# Altium integrated library ON Semi General Purpose Transistors.IntLib: 1679 symbols (part 28 of 36)
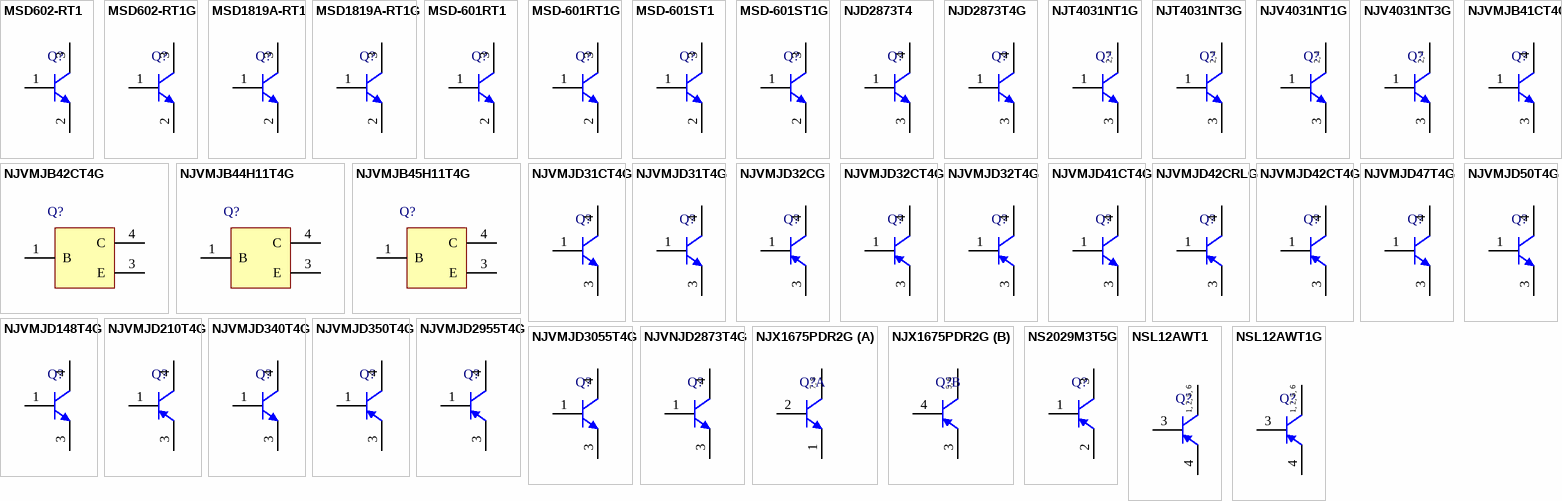
[diagram p72: symbols MSD602-RT1 to NSL12AWT1G]

## MSD602-RT1G
designator Q?
NPN General Purpose Amplifier Transistor Surface Mount, 3-Pin SC-59, Pb-Free, Tape and Reel; Manufacturer: On Semiconductor; PartNumber: MSD602-RT1G; IC Continuous (A): 0.5; DatasheetVersion: Rev. 8; PackageVersion: Rev. H, 06/2012; PackageReference: SC-59-3-318D-04; PackageDescription: 3-Pin Small Outline Transistor, Body 2.9 x 1.5 mm, Pitch 0.95 mm; Supplier 1: Digi-Key; Supplier Part Number 1: MSD602-RT1GOS-ND; Supplier 2: Mouser; Supplier Part Number 2: 863-MSD602-RT1G; Packing: Tape and Reel; Polarity: NPN; RoHS: TRUE; Mounting Technology: Surface Mount; ComponentLink1Description: Manufacturer URL; ComponentLink1URL: http://www.onsemi.com/; ComponentLink2Description: Datasheet; ComponentLink2URL: http://www.onsemi.com/pub_link/Collateral/MSD602-RT1-D.PDF; ComponentLink3Description: Package Specification; ComponentLink3URL: http://www.onsemi.cn/pub_link/Collateral/318D-04.PDF
footprint ONSC-SC-59-3-318D-04_V (SOT23, 3-Leads, Body 2.9x1.5mm, Pitch 0.95mm)
pins: 1 B, 2 E, 3 C

## MSD1819A-RT1
designator Q?
General Purpose Amplifier Transistor, NPN Silicon Surface Mount, 3-Pin SC70, Tape and Reel; Manufacturer: On Semiconductor; PartNumber: MSD1819A-RT1; Note: 0; IC Continuous (A): 0.1; DatasheetVersion: Rev. 9; PackageVersion: Rev. N, 11/2008; PackageReference: SC-70-3-419-04; PackageDescription: 3-Pin Small Outline Transistor, Body 2 x 1.25 mm, Pitch 0.65 mm; Packing: Tape and Reel; Polarity: NPN; RoHS: FALSE; Mounting Technology: Surface Mount; ComponentLink1Description: Manufacturer URL; ComponentLink1URL: http://www.onsemi.com/; ComponentLink2Description: Datasheet; ComponentLink2URL: http://www.onsemi.com/pub_link/Collateral/MSD1819A-RT1-D.PDF; ComponentLink3Description: Package Specification; ComponentLink3URL: http://www.onsemi.cn/pub_link/Collateral/419-04.PDF
footprint ONSC-SC-70-3-419-04_V (SOT23, 3-Leads, Body 2x1.25mm, Pitch 0.65mm)
pins: 1 B, 2 E, 3 C

## MSD1819A-RT1G
designator Q?
General Purpose Amplifier Transistor, NPN Silicon Surface Mount, 3-Pin SC70, Pb-Free, Tape and Reel; Manufacturer: On Semiconductor; PartNumber: MSD1819A-RT1G; IC Continuous (A): 0.1; DatasheetVersion: Rev. 9; PackageVersion: Rev. N, 11/2008; PackageReference: SC-70-3-419-04; PackageDescription: 3-Pin Small Outline Transistor, Body 2 x 1.25 mm, Pitch 0.65 mm; Supplier 1: Digi-Key; Supplier Part Number 1: MSD1819A-RT1GOSTR-ND; Supplier 2: Digi-Key; Supplier Part Number 2: MSD1819A-RT1GOSCT-ND; Supplier 3: Digi-Key; Supplier Part Number 3: MSD1819A-RT1GOSDKR-ND; Supplier 4: Farnell; Supplier Part Number 4: 2317557; Supplier 5: Newark; Supplier Part Number 5: 90W4499; Supplier 6: Mouser; Supplier Part Number 6: 863-MSD1819A-RT1G; Packing: Tape and Reel; Polarity: NPN; RoHS: TRUE; Mounting Technology: Surface Mount; ComponentLink1Description: Manufacturer URL; ComponentLink1URL: http://www.onsemi.com/; ComponentLink2Description: Datasheet; ComponentLink2URL: http://www.onsemi.com/pub_link/Collateral/MSD1819A-RT1-D.PDF; ComponentLink3Description: Package Specification; ComponentLink3URL: http://www.onsemi.cn/pub_link/Collateral/419-04.PDF
footprint ONSC-SC-70-3-419-04_V (SOT23, 3-Leads, Body 2x1.25mm, Pitch 0.65mm)
pins: 1 B, 2 E, 3 C

## MSD-601RT1
designator Q?
NPN General Purpose Amplifier Transistor Surface Mount, 3-Pin SC-59, Tape and Reel; Manufacturer: On Semiconductor; PartNumber: MSD-601RT1; Note: 0; IC Continuous (A): 0.1; DatasheetVersion: Rev. 9; PackageVersion: Rev. H, 06/2012; PackageReference: SC-59-3-318D-04; PackageDescription: 3-Pin Small Outline Transistor, Body 2.9 x 1.5 mm, Pitch 0.95 mm; Packing: Tape and Reel; Polarity: NPN; RoHS: FALSE; Mounting Technology: Surface Mount; ComponentLink1Description: Manufacturer URL; ComponentLink1URL: http://www.onsemi.com/; ComponentLink2Description: Datasheet; ComponentLink2URL: http://www.onsemi.com/pub_link/Collateral/MSD601-RT1-D.PDF; ComponentLink3Description: Package Specification; ComponentLink3URL: http://www.onsemi.cn/pub_link/Collateral/318D-04.PDF
footprint ONSC-SC-59-3-318D-04_V (SOT23, 3-Leads, Body 2.9x1.5mm, Pitch 0.95mm)
pins: 1 B, 2 E, 3 C

## MSD-601RT1G
designator Q?
NPN General Purpose Amplifier Transistor Surface Mount, 3-Pin SC-59, Pb-Free, Tape and Reel; Manufacturer: On Semiconductor; PartNumber: MSD-601RT1G; Note: 0; IC Continuous (A): 0.1; DatasheetVersion: Rev. 9; PackageVersion: Rev. H, 06/2012; PackageReference: SC-59-3-318D-04; PackageDescription: 3-Pin Small Outline Transistor, Body 2.9 x 1.5 mm, Pitch 0.95 mm; Packing: Tape and Reel; Polarity: NPN; RoHS: TRUE; Mounting Technology: Surface Mount; ComponentLink1Description: Manufacturer URL; ComponentLink1URL: http://www.onsemi.com/; ComponentLink2Description: Datasheet; ComponentLink2URL: http://www.onsemi.com/pub_link/Collateral/MSD601-RT1-D.PDF; ComponentLink3Description: Package Specification; ComponentLink3URL: http://www.onsemi.cn/pub_link/Collateral/318D-04.PDF
footprint ONSC-SC-59-3-318D-04_V (SOT23, 3-Leads, Body 2.9x1.5mm, Pitch 0.95mm)
pins: 1 B, 2 E, 3 C

## MSD-601ST1
designator Q?
NPN General Purpose Amplifier Transistor Surface Mount, 3-Pin SC-59, Tape and Reel; Manufacturer: On Semiconductor; PartNumber: MSD-601ST1; Note: 0; IC Continuous (A): 0.1; DatasheetVersion: Rev. 9; PackageVersion: Rev. H, 06/2012; PackageReference: SC-59-3-318D-04; PackageDescription: 3-Pin Small Outline Transistor, Body 2.9 x 1.5 mm, Pitch 0.95 mm; Packing: Tape and Reel; Polarity: NPN; RoHS: FALSE; Mounting Technology: Surface Mount; ComponentLink1Description: Manufacturer URL; ComponentLink1URL: http://www.onsemi.com/; ComponentLink2Description: Datasheet; ComponentLink2URL: http://www.onsemi.com/pub_link/Collateral/MSD601-RT1-D.PDF; ComponentLink3Description: Package Specification; ComponentLink3URL: http://www.onsemi.cn/pub_link/Collateral/318D-04.PDF
footprint ONSC-SC-59-3-318D-04_V (SOT23, 3-Leads, Body 2.9x1.5mm, Pitch 0.95mm)
pins: 1 B, 2 E, 3 C

## MSD-601ST1G
designator Q?
NPN General Purpose Amplifier Transistor Surface Mount, 3-Pin SC-59, Pb-Free, Tape and Reel; Manufacturer: On Semiconductor; PartNumber: MSD-601ST1G; Note: 0; IC Continuous (A): 0.1; DatasheetVersion: Rev. 9; PackageVersion: Rev. H, 06/2012; PackageReference: SC-59-3-318D-04; PackageDescription: 3-Pin Small Outline Transistor, Body 2.9 x 1.5 mm, Pitch 0.95 mm; Packing: Tape and Reel; Polarity: NPN; RoHS: TRUE; Mounting Technology: Surface Mount; ComponentLink1Description: Manufacturer URL; ComponentLink1URL: http://www.onsemi.com/; ComponentLink2Description: Datasheet; ComponentLink2URL: http://www.onsemi.com/pub_link/Collateral/MSD601-RT1-D.PDF; ComponentLink3Description: Package Specification; ComponentLink3URL: http://www.onsemi.cn/pub_link/Collateral/318D-04.PDF
footprint ONSC-SC-59-3-318D-04_V (SOT23, 3-Leads, Body 2.9x1.5mm, Pitch 0.95mm)
pins: 1 B, 2 E, 3 C

## NJD2873T4
designator Q?
Power Transistor, NPN Silicon for Surface Mount Application, 3-Pin DPAK, Tape and Reel; Manufacturer: On Semiconductor; PartNumber: NJD2873T4; Note: 0; fT Min (MHz): 65; IC Continuous (A): 2; DatasheetVersion: Rev. 15; PackageVersion: Rev. E, 02/2014; PackageReference: DPAK-3-369C-01; PackageDescription: 3-Pin Flange Mount, Body 6.54 x 6.095 mm, Pitch 2.29 mm; Packing: Tape and Reel; Polarity: NPN; RoHS: FALSE; Mounting Technology: Surface Mount; ComponentLink1Description: Manufacturer URL; ComponentLink1URL: http://www.onsemi.com/; ComponentLink2Description: Datasheet; ComponentLink2URL: http://www.onsemi.com/pub_link/Collateral/NJD2873T4-D.PDF; ComponentLink3Description: Package Specification; ComponentLink3URL: http://www.onsemi.cn/pub_link/Collateral/369C.PDF
footprint ONSC-DPAK-3-369C-01_V (DPAK, 3-Leads, Body 6.54x6.095mm, Pitch 2.29mm)
pins: 1 B, 3 E, 4 C

## NJD2873T4G
designator Q?
Power Transistor, NPN Silicon for Surface Mount Application, 3-Pin DPAK, Pb-Free, Tape and Reel; Manufacturer: On Semiconductor; PartNumber: NJD2873T4G; fT Min (MHz): 65; IC Continuous (A): 2; DatasheetVersion: Rev. 15; PackageVersion: Rev. E, 02/2014; PackageReference: DPAK-3-369C-01; PackageDescription: 3-Pin Flange Mount, Body 6.54 x 6.095 mm, Pitch 2.29 mm; Supplier 1: Digi-Key; Supplier Part Number 1: NJD2873T4GOSTR-ND; Supplier 2: Digi-Key; Supplier Part Number 2: NJD2873T4GOSCT-ND; Supplier 3: Digi-Key; Supplier Part Number 3: NJD2873T4GOSDKR-ND; Supplier 4: Newark; Supplier Part Number 4: 83H7725; Supplier 5: Newark; Supplier Part Number 5: 54T9969; Supplier 6: Mouser; Supplier Part Number 6: 863-NJD2873T4G; Packing: Tape and Reel; Polarity: NPN; RoHS: TRUE; Mounting Technology: Surface Mount; ComponentLink1Description: Manufacturer URL; ComponentLink1URL: http://www.onsemi.com/; ComponentLink2Description: Datasheet; ComponentLink2URL: http://www.onsemi.com/pub_link/Collateral/NJD2873T4-D.PDF; ComponentLink3Description: Package Specification; ComponentLink3URL: http://www.onsemi.cn/pub_link/Collateral/369C.PDF
footprint ONSC-DPAK-3-369C-01_V (DPAK, 3-Leads, Body 6.54x6.095mm, Pitch 2.29mm)
pins: 1 B, 3 E, 4 C

## NJT4031NT1G
designator Q?
Bipolar Power Transistor, NPN Silicon, 4-Pin SOT-223, Pb-Free, Tape and Reel; Manufacturer: On Semiconductor; PartNumber: NJT4031NT1G; IC Continuous (A): 3; DatasheetVersion: Rev. 4; PackageVersion: Rev. N, 08/2009; PackageReference: SOT-223-4-318E-04; PackageDescription: 4-Pin Small Outline Transistor, Body 6.5 x 3.5 mm, Pitch 2.3 mm; Supplier 1: Digi-Key; Supplier Part Number 1: NJT4031NT1GOSTR-ND; Supplier 2: Digi-Key; Supplier Part Number 2: NJT4031NT1GOSCT-ND; Supplier 3: Digi-Key; Supplier Part Number 3: NJT4031NT1GOSDKR-ND; Supplier 4: Farnell; Supplier Part Number 4: 1517646; Supplier 5: Newark; Supplier Part Number 5: 57M9869; Supplier 6: Mouser; Supplier Part Number 6: 863-NJT4031NT1G; Packing: Tape and Reel; Polarity: NPN; RoHS: TRUE; Mounting Technology: Surface Mount; ComponentLink1Description: Manufacturer URL; ComponentLink1URL: http://www.onsemi.com/; ComponentLink2Description: Datasheet; ComponentLink2URL: http://www.onsemi.com/pub_link/Collateral/NJT4031N-D.PDF; ComponentLink3Description: Package Specification; ComponentLink3URL: http://www.onsemi.com/pub_link/Collateral/318E-04.PDF
footprint ONSC-SOT-223-4-318E-04_V (SOT223, 4-Leads, Body 6.5x3.5mm, Pitch 2.3mm)
pins: 1 B, 2 C, 3 E, 4 C
text: 2, 4

## NJT4031NT3G
designator Q?
Bipolar Power Transistor, NPN Silicon, 4-Pin SOT-223, Pb-Free, Tape and Reel; Manufacturer: On Semiconductor; PartNumber: NJT4031NT3G; IC Continuous (A): 3; DatasheetVersion: Rev. 4; PackageVersion: Rev. N, 08/2009; PackageReference: SOT-223-4-318E-04; PackageDescription: 4-Pin Small Outline Transistor, Body 6.5 x 3.5 mm, Pitch 2.3 mm; Supplier 1: Digi-Key; Supplier Part Number 1: NJT4031NT3G-ND; Supplier 2: Mouser; Supplier Part Number 2: 863-NJT4031NT3G; Packing: Tape and Reel; Polarity: NPN; RoHS: TRUE; Mounting Technology: Surface Mount; ComponentLink1Description: Manufacturer URL; ComponentLink1URL: http://www.onsemi.com/; ComponentLink2Description: Datasheet; ComponentLink2URL: http://www.onsemi.com/pub_link/Collateral/NJT4031N-D.PDF; ComponentLink3Description: Package Specification; ComponentLink3URL: http://www.onsemi.com/pub_link/Collateral/318E-04.PDF
footprint ONSC-SOT-223-4-318E-04_V (SOT223, 4-Leads, Body 6.5x3.5mm, Pitch 2.3mm)
pins: 1 B, 2 C, 3 E, 4 C
text: 2, 4

## NJV4031NT1G
designator Q?
Bipolar Power Transistor, NPN Silicon, 4-Pin SOT-223, Pb-Free, Tape and Reel; Manufacturer: On Semiconductor; PartNumber: NJV4031NT1G; IC Continuous (A): 3; DatasheetVersion: Rev. 4; PackageVersion: Rev. N, 08/2009; PackageReference: SOT-223-4-318E-04; PackageDescription: 4-Pin Small Outline Transistor, Body 6.5 x 3.5 mm, Pitch 2.3 mm; Supplier 1: Newark; Supplier Part Number 1: 97W6314; Supplier 2: Mouser; Supplier Part Number 2: 863-NJV4031NT1G; Packing: Tape and Reel; Polarity: NPN; RoHS: TRUE; Mounting Technology: Surface Mount; ComponentLink1Description: Manufacturer URL; ComponentLink1URL: http://www.onsemi.com/; ComponentLink2Description: Datasheet; ComponentLink2URL: http://www.onsemi.com/pub_link/Collateral/NJT4031N-D.PDF; ComponentLink3Description: Package Specification; ComponentLink3URL: http://www.onsemi.com/pub_link/Collateral/318E-04.PDF
footprint ONSC-SOT-223-4-318E-04_V (SOT223, 4-Leads, Body 6.5x3.5mm, Pitch 2.3mm)
pins: 1 B, 2 C, 3 E, 4 C
text: 2, 4

## NJV4031NT3G
designator Q?
Bipolar Power Transistor, NPN Silicon, 4-Pin SOT-223, Pb-Free, Tape and Reel; Manufacturer: On Semiconductor; PartNumber: NJV4031NT3G; IC Continuous (A): 3; DatasheetVersion: Rev. 4; PackageVersion: Rev. N, 08/2009; PackageReference: SOT-223-4-318E-04; PackageDescription: 4-Pin Small Outline Transistor, Body 6.5 x 3.5 mm, Pitch 2.3 mm; Supplier 1: Newark; Supplier Part Number 1: 97W6315; Supplier 2: Mouser; Supplier Part Number 2: 863-NJV4031NT3G; Packing: Tape and Reel; Polarity: NPN; RoHS: TRUE; Mounting Technology: Surface Mount; ComponentLink1Description: Manufacturer URL; ComponentLink1URL: http://www.onsemi.com/; ComponentLink2Description: Datasheet; ComponentLink2URL: http://www.onsemi.com/pub_link/Collateral/NJT4031N-D.PDF; ComponentLink3Description: Package Specification; ComponentLink3URL: http://www.onsemi.com/pub_link/Collateral/318E-04.PDF
footprint ONSC-SOT-223-4-318E-04_V (SOT223, 4-Leads, Body 6.5x3.5mm, Pitch 2.3mm)
pins: 1 B, 2 C, 3 E, 4 C
text: 2, 4

## NJVMJB41CT4G
designator Q?
Complementary Silicon Plastic Power Transistor, 3-Pin D2PAK, Pb-Free, Tape and Reel; Manufacturer: On Semiconductor; PartNumber: NJVMJB41CT4G; fT Min (MHz): 3; IC Continuous (A): 6; Polarity: NPN; DatasheetVersion: Rev. 4; PackageVersion: Rev. K, 09/2008; PackageReference: D2PAK-3-418B-04; PackageDescription: 3-Pin Flange Mount, Body 9.145 x 9.97 mm, Pitch 2.54 mm; Supplier 1: Digi-Key; Supplier Part Number 1: NJVMJB41CT4G-ND; Supplier 2: Mouser; Supplier Part Number 2: 863-NJVMJB41CT4G; Packing: Tape and Reel; RoHS: TRUE; Mounting Technology: Surface Mount; ComponentLink1Description: Manufacturer URL; ComponentLink1URL: http://www.onsemi.com/; ComponentLink2Description: Datasheet; ComponentLink2URL: http://www.onsemi.com/pub_link/Collateral/MJB41C-D.PDF; ComponentLink3Description: Package Specification; ComponentLink3URL: http://www.onsemi.com/pub_link/Collateral/418B-04.PDF
footprint ONSC-D2PAK-3-418B-04_V (DPAK, 3-Leads, Body 9.97x9.145mm, Pitch 2.54mm)
pins: 1 B, 3 E, 4 C

## NJVMJB42CT4G
designator Q?
Complementary Silicon Plastic Power Transistor, 3-Pin D2PAK, Pb-Free, Tape and Reel; Manufacturer: On Semiconductor; PartNumber: NJVMJB42CT4G; fT Min (MHz): 3; IC Continuous (A): 6; Polarity: PNP; DatasheetVersion: Rev. 4; PackageVersion: Rev. K, 09/2008; PackageReference: D2PAK-3-418B-04; PackageDescription: 3-Pin Flange Mount, Body 9.145 x 9.97 mm, Pitch 2.54 mm; Supplier 1: Digi-Key; Supplier Part Number 1: NJVMJB42CT4G-ND; Supplier 2: Mouser; Supplier Part Number 2: 863-NJVMJB42CT4G; Packing: Tape and Reel; RoHS: TRUE; Mounting Technology: Surface Mount; ComponentLink1Description: Manufacturer URL; ComponentLink1URL: http://www.onsemi.com/; ComponentLink2Description: Datasheet; ComponentLink2URL: http://www.onsemi.com/pub_link/Collateral/MJB41C-D.PDF; ComponentLink3Description: Package Specification; ComponentLink3URL: http://www.onsemi.com/pub_link/Collateral/418B-04.PDF
footprint ONSC-D2PAK-3-418B-04_V (DPAK, 3-Leads, Body 9.97x9.145mm, Pitch 2.54mm)
pins: 1 B, 3 E, 4 C

## NJVMJB44H11T4G
designator Q?
Complementary Power Transistor, 3-Pin D2PAK, Pb-Free, Tape and Reel; Manufacturer: On Semiconductor; PartNumber: NJVMJB44H11T4G; IC Continuous (A): 10; Polarity: NPN; DatasheetVersion: Rev. 5; PackageVersion: Rev. K, 09/2008; PackageReference: D2PAK-3-418B-04; PackageDescription: 3-Pin Flange Mount, Body 9.145 x 9.97 mm, Pitch 2.54 mm; Supplier 1: Digi-Key; Supplier Part Number 1: NJVMJB44H11T4G-ND; Supplier 2: Mouser; Supplier Part Number 2: 863-NJVMJB44H11T4G; Packing: Tape and Reel; RoHS: TRUE; Mounting Technology: Surface Mount; ComponentLink1Description: Manufacturer URL; ComponentLink1URL: http://www.onsemi.com/; ComponentLink2Description: Datasheet; ComponentLink2URL: http://www.onsemi.com/pub_link/Collateral/MJB44H11-D.PDF; ComponentLink3Description: Package Specification; ComponentLink3URL: http://www.onsemi.com/pub_link/Collateral/418B-04.PDF
footprint ONSC-D2PAK-3-418B-04_V (DPAK, 3-Leads, Body 9.97x9.145mm, Pitch 2.54mm)
pins: 1 B, 3 E, 4 C

## NJVMJB45H11T4G
designator Q?
Complementary Power Transistor, 3-Pin D2PAK, Pb-Free, Tape and Reel; Manufacturer: On Semiconductor; PartNumber: NJVMJB45H11T4G; IC Continuous (A): 10; Polarity: PNP; DatasheetVersion: Rev. 5; PackageVersion: Rev. K, 09/2008; PackageReference: D2PAK-3-418B-04; PackageDescription: 3-Pin Flange Mount, Body 9.145 x 9.97 mm, Pitch 2.54 mm; Supplier 1: Digi-Key; Supplier Part Number 1: NJVMJB45H11T4G-ND; Supplier 2: Mouser; Supplier Part Number 2: 863-NJVMJB45H11T4G; Packing: Tape and Reel; RoHS: TRUE; Mounting Technology: Surface Mount; ComponentLink1Description: Manufacturer URL; ComponentLink1URL: http://www.onsemi.com/; ComponentLink2Description: Datasheet; ComponentLink2URL: http://www.onsemi.com/pub_link/Collateral/MJB44H11-D.PDF; ComponentLink3Description: Package Specification; ComponentLink3URL: http://www.onsemi.com/pub_link/Collateral/418B-04.PDF
footprint ONSC-D2PAK-3-418B-04_V (DPAK, 3-Leads, Body 9.97x9.145mm, Pitch 2.54mm)
pins: 1 B, 3 E, 4 C

## NJVMJD31CT4G
designator Q?
Complementary Power Transistor, 3-Pin DPAK, Pb-Free, Tape and Reel; Manufacturer: On Semiconductor; PartNumber: NJVMJD31CT4G; fT Min (MHz): 3; Polarity: NPN; DatasheetVersion: Rev. 13; PackageVersion: Rev. E, 02/2014; PackageReference: DPAK-3-369C-01; PackageDescription: 3-Pin Flange Mount, Body 6.54 x 6.095 mm, Pitch 2.29 mm; Supplier 1: Digi-Key; Supplier Part Number 1: NJVMJD31CT4GOSTR-ND; Supplier 2: Digi-Key; Supplier Part Number 2: NJVMJD31CT4GOSCT-ND; Supplier 3: Digi-Key; Supplier Part Number 3: NJVMJD31CT4GOSDKR-ND; Supplier 4: Farnell; Supplier Part Number 4: 2317567; Supplier 5: Newark; Supplier Part Number 5: 85W3174; Supplier 6: Newark; Supplier Part Number 6: 90W9283; Supplier 7: Newark; Supplier Part Number 7: 76T6460; Supplier 8: Mouser; Supplier Part Number 8: 863-NJVMJD31CT4G; IC Continuous (A): 3; Packing: Tape and Reel; RoHS: TRUE; Mounting Technology: Surface Mount; ComponentLink1Description: Manufacturer URL; ComponentLink1URL: http://www.onsemi.com/; ComponentLink2Description: Datasheet; ComponentLink2URL: http://www.onsemi.cn/pub_link/Collateral/MJD31-D.PDF; ComponentLink3Description: Package Specification; ComponentLink3URL: http://www.onsemi.cn/pub_link/Collateral/369C.PDF
footprint ONSC-DPAK-3-369C-01_V (DPAK, 3-Leads, Body 6.54x6.095mm, Pitch 2.29mm)
pins: 1 B, 3 E, 4 C

## NJVMJD31T4G
designator Q?
Complementary Power Transistor, 3-Pin DPAK, Pb-Free, Tape and Reel; Manufacturer: On Semiconductor; PartNumber: NJVMJD31T4G; fT Min (MHz): 3; Polarity: NPN; DatasheetVersion: Rev. 13; PackageVersion: Rev. E, 02/2014; PackageReference: DPAK-3-369C-01; PackageDescription: 3-Pin Flange Mount, Body 6.54 x 6.095 mm, Pitch 2.29 mm; Supplier 1: Newark; Supplier Part Number 1: 97W6308; Supplier 2: Mouser; Supplier Part Number 2: 863-NJVMJD31T4G; IC Continuous (A): 3; Packing: Tape and Reel; RoHS: TRUE; Mounting Technology: Surface Mount; ComponentLink1Description: Manufacturer URL; ComponentLink1URL: http://www.onsemi.com/; ComponentLink2Description: Datasheet; ComponentLink2URL: http://www.onsemi.cn/pub_link/Collateral/MJD31-D.PDF; ComponentLink3Description: Package Specification; ComponentLink3URL: http://www.onsemi.cn/pub_link/Collateral/369C.PDF
footprint ONSC-DPAK-3-369C-01_V (DPAK, 3-Leads, Body 6.54x6.095mm, Pitch 2.29mm)
pins: 1 B, 3 E, 4 C

## NJVMJD32CG
designator Q?
Complementary Power Transistor, 3-Pin DPAK, Pb-Free, Tube; Manufacturer: On Semiconductor; PartNumber: NJVMJD32CG; fT Min (MHz): 3; Polarity: PNP; DatasheetVersion: Rev. 13; PackageVersion: Rev. E, 02/2014; PackageReference: DPAK-3-369C-01; PackageDescription: 3-Pin Flange Mount, Body 6.54 x 6.095 mm, Pitch 2.29 mm; Supplier 1: Digi-Key; Supplier Part Number 1: NJVMJD32CG-ND; Supplier 2: Mouser; Supplier Part Number 2: 863-NJVMJD32CG; IC Continuous (A): 3; Packing: Tube; RoHS: TRUE; Mounting Technology: Surface Mount; ComponentLink1Description: Manufacturer URL; ComponentLink1URL: http://www.onsemi.com/; ComponentLink2Description: Datasheet; ComponentLink2URL: http://www.onsemi.cn/pub_link/Collateral/MJD31-D.PDF; ComponentLink3Description: Package Specification; ComponentLink3URL: http://www.onsemi.cn/pub_link/Collateral/369C.PDF
footprint ONSC-DPAK-3-369C-01_V (DPAK, 3-Leads, Body 6.54x6.095mm, Pitch 2.29mm)
pins: 1 B, 3 E, 4 C

## NJVMJD32CT4G
designator Q?
Complementary Power Transistor, 3-Pin DPAK, Pb-Free, Tape and Reel; Manufacturer: On Semiconductor; PartNumber: NJVMJD32CT4G; fT Min (MHz): 3; Polarity: PNP; DatasheetVersion: Rev. 13; PackageVersion: Rev. E, 02/2014; PackageReference: DPAK-3-369C-01; PackageDescription: 3-Pin Flange Mount, Body 6.54 x 6.095 mm, Pitch 2.29 mm; Supplier 1: Digi-Key; Supplier Part Number 1: NJVMJD32CT4G-ND; Supplier 2: Newark; Supplier Part Number 2: 65T1469; Supplier 3: Mouser; Supplier Part Number 3: 863-NJVMJD32CT4G; IC Continuous (A): 3; Packing: Tape and Reel; RoHS: TRUE; Mounting Technology: Surface Mount; ComponentLink1Description: Manufacturer URL; ComponentLink1URL: http://www.onsemi.com/; ComponentLink2Description: Datasheet; ComponentLink2URL: http://www.onsemi.cn/pub_link/Collateral/MJD31-D.PDF; ComponentLink3Description: Package Specification; ComponentLink3URL: http://www.onsemi.cn/pub_link/Collateral/369C.PDF
footprint ONSC-DPAK-3-369C-01_V (DPAK, 3-Leads, Body 6.54x6.095mm, Pitch 2.29mm)
pins: 1 B, 3 E, 4 C

## NJVMJD32T4G
designator Q?
Complementary Power Transistor, 3-Pin DPAK, Pb-Free, Tape and Reel; Manufacturer: On Semiconductor; PartNumber: NJVMJD32T4G; fT Min (MHz): 3; Polarity: PNP; DatasheetVersion: Rev. 13; PackageVersion: Rev. E, 02/2014; PackageReference: DPAK-3-369C-01; PackageDescription: 3-Pin Flange Mount, Body 6.54 x 6.095 mm, Pitch 2.29 mm; Supplier 1: Newark; Supplier Part Number 1: 97W6309; Supplier 2: Mouser; Supplier Part Number 2: 863-NJVMJD32T4G; IC Continuous (A): 3; Packing: Tape and Reel; RoHS: TRUE; Mounting Technology: Surface Mount; ComponentLink1Description: Manufacturer URL; ComponentLink1URL: http://www.onsemi.com/; ComponentLink2Description: Datasheet; ComponentLink2URL: http://www.onsemi.cn/pub_link/Collateral/MJD31-D.PDF; ComponentLink3Description: Package Specification; ComponentLink3URL: http://www.onsemi.cn/pub_link/Collateral/369C.PDF
footprint ONSC-DPAK-3-369C-01_V (DPAK, 3-Leads, Body 6.54x6.095mm, Pitch 2.29mm)
pins: 1 B, 3 E, 4 C

## NJVMJD41CT4G
designator Q?
Complementary Power Transistor, 3-Pin DPAK, Pb-Free, Tape and Reel; Manufacturer: On Semiconductor; PartNumber: NJVMJD41CT4G; fT Min (MHz): 3; IC Continuous (A): 6; Polarity: NPN; DatasheetVersion: Rev. 12; PackageVersion: Rev. E, 02/2014; PackageReference: DPAK-3-369C-01; PackageDescription: 3-Pin Flange Mount, Body 6.54 x 6.095 mm, Pitch 2.29 mm; Supplier 1: Digi-Key; Supplier Part Number 1: NJVMJD41CT4G-ND; Supplier 2: Newark; Supplier Part Number 2: 76T6464; Supplier 3: Mouser; Supplier Part Number 3: 863-NJVMJD41CT4G; Packing: Tape and Reel; RoHS: TRUE; Mounting Technology: Surface Mount; ComponentLink1Description: Manufacturer URL; ComponentLink1URL: http://www.onsemi.com/; ComponentLink2Description: Datasheet; ComponentLink2URL: http://www.onsemi.cn/pub_link/Collateral/MJD41C-D.PDF; ComponentLink3Description: Package Specification; ComponentLink3URL: http://www.onsemi.cn/pub_link/Collateral/369C.PDF
footprint ONSC-DPAK-3-369C-01_V (DPAK, 3-Leads, Body 6.54x6.095mm, Pitch 2.29mm)
pins: 1 B, 3 E, 4 C

## NJVMJD42CRLG
designator Q?
Complementary Power Transistor, 3-Pin DPAK, Pb-Free, Tape and Reel; Manufacturer: On Semiconductor; PartNumber: NJVMJD42CRLG; fT Min (MHz): 3; IC Continuous (A): 6; Polarity: PNP; DatasheetVersion: Rev. 12; PackageVersion: Rev. E, 02/2014; PackageReference: DPAK-3-369C-01; PackageDescription: 3-Pin Flange Mount, Body 6.54 x 6.095 mm, Pitch 2.29 mm; Supplier 1: Newark; Supplier Part Number 1: 97W6310; Supplier 2: Mouser; Supplier Part Number 2: 863-NJVMJD42CRLG; Packing: Tape and Reel; RoHS: TRUE; Mounting Technology: Surface Mount; ComponentLink1Description: Manufacturer URL; ComponentLink1URL: http://www.onsemi.com/; ComponentLink2Description: Datasheet; ComponentLink2URL: http://www.onsemi.cn/pub_link/Collateral/MJD41C-D.PDF; ComponentLink3Description: Package Specification; ComponentLink3URL: http://www.onsemi.cn/pub_link/Collateral/369C.PDF
footprint ONSC-DPAK-3-369C-01_V (DPAK, 3-Leads, Body 6.54x6.095mm, Pitch 2.29mm)
pins: 1 B, 3 E, 4 C

## NJVMJD42CT4G
designator Q?
Complementary Power Transistor, 3-Pin DPAK, Pb-Free, Tape and Reel; Manufacturer: On Semiconductor; PartNumber: NJVMJD42CT4G; fT Min (MHz): 3; IC Continuous (A): 6; Polarity: PNP; DatasheetVersion: Rev. 12; PackageVersion: Rev. E, 02/2014; PackageReference: DPAK-3-369C-01; PackageDescription: 3-Pin Flange Mount, Body 6.54 x 6.095 mm, Pitch 2.29 mm; Supplier 1: Digi-Key; Supplier Part Number 1: NJVMJD42CT4G-ND; Supplier 2: Mouser; Supplier Part Number 2: 863-NJVMJD42CT4G; Packing: Tape and Reel; RoHS: TRUE; Mounting Technology: Surface Mount; ComponentLink1Description: Manufacturer URL; ComponentLink1URL: http://www.onsemi.com/; ComponentLink2Description: Datasheet; ComponentLink2URL: http://www.onsemi.cn/pub_link/Collateral/MJD41C-D.PDF; ComponentLink3Description: Package Specification; ComponentLink3URL: http://www.onsemi.cn/pub_link/Collateral/369C.PDF
footprint ONSC-DPAK-3-369C-01_V (DPAK, 3-Leads, Body 6.54x6.095mm, Pitch 2.29mm)
pins: 1 B, 3 E, 4 C

## NJVMJD47T4G
designator Q?
High Voltage Power Transistor, 3-Pin DPAK, Pb-Free, Tape and Reel; Manufacturer: On Semiconductor; PartNumber: NJVMJD47T4G; fT Min (MHz): 10; IC Continuous (A): 1; Polarity: NPN; DatasheetVersion: Rev. 14; PackageVersion: Rev. E, 02/2014; PackageReference: DPAK-3-369C-01; PackageDescription: 3-Pin Flange Mount, Body 6.54 x 6.095 mm, Pitch 2.29 mm; Supplier 1: Digi-Key; Supplier Part Number 1: NJVMJD47T4G-ND; Supplier 2: Mouser; Supplier Part Number 2: 863-NJVMJD47T4G; Packing: Tape and Reel; RoHS: TRUE; Mounting Technology: Surface Mount; ComponentLink1Description: Manufacturer URL; ComponentLink1URL: http://www.onsemi.com/; ComponentLink2Description: Datasheet; ComponentLink2URL: http://www.onsemi.cn/pub_link/Collateral/MJD47-D.PDF; ComponentLink3Description: Package Specification; ComponentLink3URL: http://www.onsemi.cn/pub_link/Collateral/369C.PDF
footprint ONSC-DPAK-3-369C-01_V (DPAK, 3-Leads, Body 6.54x6.095mm, Pitch 2.29mm)
pins: 1 B, 3 E, 4 C

## NJVMJD50T4G
designator Q?
High Voltage Power Transistor, 3-Pin DPAK, Pb-Free, Tape and Reel; Manufacturer: On Semiconductor; PartNumber: NJVMJD50T4G; fT Min (MHz): 10; IC Continuous (A): 1; Polarity: NPN; DatasheetVersion: Rev. 14; PackageVersion: Rev. E, 02/2014; PackageReference: DPAK-3-369C-01; PackageDescription: 3-Pin Flange Mount, Body 6.54 x 6.095 mm, Pitch 2.29 mm; Supplier 1: Digi-Key; Supplier Part Number 1: NJVMJD50T4G-ND; Supplier 2: Mouser; Supplier Part Number 2: 863-NJVMJD50T4G; Packing: Tape and Reel; RoHS: TRUE; Mounting Technology: Surface Mount; ComponentLink1Description: Manufacturer URL; ComponentLink1URL: http://www.onsemi.com/; ComponentLink2Description: Datasheet; ComponentLink2URL: http://www.onsemi.cn/pub_link/Collateral/MJD47-D.PDF; ComponentLink3Description: Package Specification; ComponentLink3URL: http://www.onsemi.cn/pub_link/Collateral/369C.PDF
footprint ONSC-DPAK-3-369C-01_V (DPAK, 3-Leads, Body 6.54x6.095mm, Pitch 2.29mm)
pins: 1 B, 3 E, 4 C

## NJVMJD148T4G
designator Q?
NPN Silicon Power Transistor, 3-Pin DPAK, Pb-Free, Tape and Reel; Manufacturer: On Semiconductor; PartNumber: NJVMJD148T4G; fT Min (MHz): 3; IC Continuous (A): 4; DatasheetVersion: Rev. 8; PackageVersion: Rev. E, 02/2014; PackageReference: DPAK-3-369C-01; PackageDescription: 3-Pin Flange Mount, Body 6.54 x 6.095 mm, Pitch 2.29 mm; Supplier 1: Digi-Key; Supplier Part Number 1: NJVMJD148T4G-ND; Supplier 2: Mouser; Supplier Part Number 2: 863-NJVMJD148T4G; Packing: Tape and Reel; Polarity: NPN; RoHS: TRUE; Mounting Technology: Surface Mount; ComponentLink1Description: Manufacturer URL; ComponentLink1URL: http://www.onsemi.com/; ComponentLink2Description: Datasheet; ComponentLink2URL: http://www.onsemi.cn/pub_link/Collateral/MJD148-D.PDF; ComponentLink3Description: Package Specification; ComponentLink3URL: http://www.onsemi.cn/pub_link/Collateral/369C.PDF
footprint ONSC-DPAK-3-369C-01_V (DPAK, 3-Leads, Body 6.54x6.095mm, Pitch 2.29mm)
pins: 1 B, 3 E, 4 C

## NJVMJD210T4G
designator Q?
Complementary Plastic Power Transistor, PNP Silicon, 3-Pin DPAK, Pb-Free, Tape and Reel; Manufacturer: On Semiconductor; PartNumber: NJVMJD210T4G; fT Min (MHz): 65; IC Continuous (A): 5; DatasheetVersion: Rev. 13; PackageVersion: Rev. E, 02/2014; PackageReference: DPAK-3-369C-01; PackageDescription: 3-Pin Flange Mount, Body 6.54 x 6.095 mm, Pitch 2.29 mm; Supplier 1: Newark; Supplier Part Number 1: 97W6306; Supplier 2: Mouser; Supplier Part Number 2: 863-NJVMJD210T4G; Packing: Tape and Reel; Polarity: PNP; RoHS: TRUE; Mounting Technology: Surface Mount; ComponentLink1Description: Manufacturer URL; ComponentLink1URL: http://www.onsemi.com/; ComponentLink2Description: Datasheet; ComponentLink2URL: http://www.onsemi.cn/pub_link/Collateral/MJD200-D.PDF; ComponentLink3Description: Package Specification; ComponentLink3URL: http://www.onsemi.cn/pub_link/Collateral/369C.PDF
footprint ONSC-DPAK-3-369C-01_V (DPAK, 3-Leads, Body 6.54x6.095mm, Pitch 2.29mm)
pins: 1 B, 3 E, 4 C

## NJVMJD340T4G
designator Q?
High Voltage Power Transistor, 3-Pin DPAK, Pb-Free, Tape and Reel; Manufacturer: On Semiconductor; PartNumber: NJVMJD340T4G; fT Min (MHz): 10; IC Continuous (A): 0.5; Polarity: NPN; DatasheetVersion: Rev. 11; PackageVersion: Rev. E, 02/2014; PackageReference: DPAK-3-369C-01; PackageDescription: 3-Pin Flange Mount, Body 6.54 x 6.095 mm, Pitch 2.29 mm; Supplier 1: Digi-Key; Supplier Part Number 1: NJVMJD340T4G-ND; Supplier 2: Mouser; Supplier Part Number 2: 863-NJVMJD340T4G; Packing: Tape and Reel; RoHS: TRUE; Mounting Technology: Surface Mount; ComponentLink1Description: Manufacturer URL; ComponentLink1URL: http://www.onsemi.com/; ComponentLink2Description: Datasheet; ComponentLink2URL: http://www.onsemi.cn/pub_link/Collateral/MJD340-D.PDF; ComponentLink3Description: Package Specification; ComponentLink3URL: http://www.onsemi.cn/pub_link/Collateral/369C.PDF
footprint ONSC-DPAK-3-369C-01_V (DPAK, 3-Leads, Body 6.54x6.095mm, Pitch 2.29mm)
pins: 1 B, 3 E, 4 C

## NJVMJD350T4G
designator Q?
High Voltage Power Transistor, 3-Pin DPAK, Pb-Free, Tape and Reel; Manufacturer: On Semiconductor; PartNumber: NJVMJD350T4G; fT Min (MHz): 10; IC Continuous (A): 0.5; Polarity: PNP; DatasheetVersion: Rev. 11; PackageVersion: Rev. E, 02/2014; PackageReference: DPAK-3-369C-01; PackageDescription: 3-Pin Flange Mount, Body 6.54 x 6.095 mm, Pitch 2.29 mm; Supplier 1: Digi-Key; Supplier Part Number 1: NJVMJD350T4G-ND; Supplier 2: Mouser; Supplier Part Number 2: 863-NJVMJD350T4G; Packing: Tape and Reel; RoHS: TRUE; Mounting Technology: Surface Mount; ComponentLink1Description: Manufacturer URL; ComponentLink1URL: http://www.onsemi.com/; ComponentLink2Description: Datasheet; ComponentLink2URL: http://www.onsemi.cn/pub_link/Collateral/MJD340-D.PDF; ComponentLink3Description: Package Specification; ComponentLink3URL: http://www.onsemi.cn/pub_link/Collateral/369C.PDF
footprint ONSC-DPAK-3-369C-01_V (DPAK, 3-Leads, Body 6.54x6.095mm, Pitch 2.29mm)
pins: 1 B, 3 E, 4 C

## NJVMJD2955T4G
designator Q?
Complementary Power Transistor, 3-Pin DPAK, Pb-Free, Tape and Reel; Manufacturer: On Semiconductor; PartNumber: NJVMJD2955T4G; fT Min (MHz): 2; IC Continuous (A): 10; Polarity: PNP; DatasheetVersion: Rev. 13; PackageVersion: Rev. E, 02/2014; PackageReference: DPAK-3-369C-01; PackageDescription: 3-Pin Flange Mount, Body 6.54 x 6.095 mm, Pitch 2.29 mm; Supplier 1: Digi-Key; Supplier Part Number 1: NJVMJD2955T4G-ND; Supplier 2: Mouser; Supplier Part Number 2: 863-NJVMJD2955T4G; Packing: Tape and Reel; RoHS: TRUE; Mounting Technology: Surface Mount; ComponentLink1Description: Manufacturer URL; ComponentLink1URL: http://www.onsemi.com/; ComponentLink2Description: Datasheet; ComponentLink2URL: http://www.onsemi.cn/pub_link/Collateral/MJD2955-D.PDF; ComponentLink3Description: Package Specification; ComponentLink3URL: http://www.onsemi.cn/pub_link/Collateral/369C.PDF
footprint ONSC-DPAK-3-369C-01_V (DPAK, 3-Leads, Body 6.54x6.095mm, Pitch 2.29mm)
pins: 1 B, 3 E, 4 C

## NJVMJD3055T4G
designator Q?
Complementary Power Transistor, 3-Pin DPAK, Pb-Free, Tape and Reel; Manufacturer: On Semiconductor; PartNumber: NJVMJD3055T4G; fT Min (MHz): 2; IC Continuous (A): 10; Polarity: NPN; DatasheetVersion: Rev. 13; PackageVersion: Rev. E, 02/2014; PackageReference: DPAK-3-369C-01; PackageDescription: 3-Pin Flange Mount, Body 6.54 x 6.095 mm, Pitch 2.29 mm; Supplier 1: Newark; Supplier Part Number 1: 97W6307; Supplier 2: Mouser; Supplier Part Number 2: 863-NJVMJD3055T4G; Packing: Tape and Reel; RoHS: TRUE; Mounting Technology: Surface Mount; ComponentLink1Description: Manufacturer URL; ComponentLink1URL: http://www.onsemi.com/; ComponentLink2Description: Datasheet; ComponentLink2URL: http://www.onsemi.cn/pub_link/Collateral/MJD2955-D.PDF; ComponentLink3Description: Package Specification; ComponentLink3URL: http://www.onsemi.cn/pub_link/Collateral/369C.PDF
footprint ONSC-DPAK-3-369C-01_V (DPAK, 3-Leads, Body 6.54x6.095mm, Pitch 2.29mm)
pins: 1 B, 3 E, 4 C

## NJVNJD2873T4G
designator Q?
Power Transistor, NPN Silicon for Surface Mount Application, 3-Pin DPAK, Pb-Free, Tape and Reel; Manufacturer: On Semiconductor; PartNumber: NJVNJD2873T4G; fT Min (MHz): 65; IC Continuous (A): 2; DatasheetVersion: Rev. 15; PackageVersion: Rev. E, 02/2014; PackageReference: DPAK-3-369C-01; PackageDescription: 3-Pin Flange Mount, Body 6.54 x 6.095 mm, Pitch 2.29 mm; Supplier 1: Digi-Key; Supplier Part Number 1: NJVNJD2873T4GOSTR-ND; Supplier 2: Digi-Key; Supplier Part Number 2: NJVNJD2873T4GOSCT-ND; Supplier 3: Digi-Key; Supplier Part Number 3: NJVNJD2873T4GOSDKR-ND; Supplier 4: Newark; Supplier Part Number 4: 76T6473; Supplier 5: Mouser; Supplier Part Number 5: 863-NJVNJD2873T4G; Packing: Tape and Reel; Polarity: NPN; RoHS: TRUE; Mounting Technology: Surface Mount; ComponentLink1Description: Manufacturer URL; ComponentLink1URL: http://www.onsemi.com/; ComponentLink2Description: Datasheet; ComponentLink2URL: http://www.onsemi.com/pub_link/Collateral/NJD2873T4-D.PDF; ComponentLink3Description: Package Specification; ComponentLink3URL: http://www.onsemi.cn/pub_link/Collateral/369C.PDF
footprint ONSC-DPAK-3-369C-01_V (DPAK, 3-Leads, Body 6.54x6.095mm, Pitch 2.29mm)
pins: 1 B, 3 E, 4 C

## NJX1675PDR2G
designator Q?
Complementary 30 V, 6 A, Transistor, 8-Pin SOIC, Pb-Free, Tape and Reel; Manufacturer: On Semiconductor; PartNumber: NJX1675PDR2G; fT Min (MHz): 100; IC Continuous (A): 3; DatasheetVersion: Rev. 0; PackageVersion: Rev. AK, 02/2011; PackageReference: SOIC-8-751-07; PackageDescription: 8-Pin Small Outline Integrated Circuit, Body 4.9 x 3.9 mm, Pitch 1.27 mm; Supplier 1: Digi-Key; Supplier Part Number 1: NJX1675PDR2G-ND; Supplier 2: Newark; Supplier Part Number 2: 79R3531; Supplier 3: Mouser; Supplier Part Number 3: 863-NJX1675PDR2G; Packing: Tape and Reel; Polarity: Complementary; RoHS: TRUE; Mounting Technology: Surface Mount; ComponentLink1Description: Manufacturer URL; ComponentLink1URL: http://www.onsemi.com/; ComponentLink2Description: Datasheet; ComponentLink2URL: http://www.onsemi.com/pub_link/Collateral/NJX1675P-D.PDF; ComponentLink3Description: Package Specification; ComponentLink3URL: http://www.onsemi.com/pub_link/Collateral/751-07.PDF
footprint ONSC-SOIC-8-751-07_V (SOIC, 8-Leads, Body 4.9x3.9mm, Pitch 1.27mm)
part A pins: 1 E, 2 B, 7 C, 8 C
part B pins: 3 E, 4 B, 5 C, 6 C
part A text: 7, 8
part B text: 5, 6

## NS2029M3T5G
designator Q?
PNP Silicon General Purpose Amplifier Transistor, 3-Pin SOT-723, Pb-Free, Tape and Reel; Manufacturer: On Semiconductor; PartNumber: NS2029M3T5G; IC Continuous (A): -0.15; DatasheetVersion: Rev. 3; PackageVersion: Rev. D, 08/2009; PackageReference: SOT-723-3-631AA-01; PackageDescription: 3-Pin Small Outline Transistor, Body 1.2 x 0.8 mm, Pitch 0.4 mm; Supplier 1: Digi-Key; Supplier Part Number 1: NS2029M3T5G-ND; Supplier 2: Newark; Supplier Part Number 2: 57M9901; Supplier 3: Mouser; Supplier Part Number 3: 863-NS2029M3T5G; Packing: Tape and Reel; Polarity: PNP; RoHS: TRUE; Mounting Technology: Surface Mount; ComponentLink1Description: Manufacturer URL; ComponentLink1URL: http://www.onsemi.com/; ComponentLink2Description: Datasheet; ComponentLink2URL: http://www.onsemi.com/pub_link/Collateral/NS2029M3-D.PDF; ComponentLink3Description: Package Specification; ComponentLink3URL: http://www.onsemi.com/pub_link/Collateral/631AA.PDF
footprint ONSC-SOT-723-3-631AA-01_V (SOT223, 3-Leads, Body 1.2x0.8mm, Pitch 0.4mm)
pins: 1 B, 2 E, 3 C

## NSL12AWT1
designator Q?
High Current Surface Mount PNP Silicon Low VCE(sat), Transistor for Battery Operated Application, 6-Pin SC70, Tape and Reel; Manufacturer: On Semiconductor; PartNumber: NSL12AWT1; IC Continuous (A): -2; DatasheetVersion: Rev. 3; PackageVersion: Rev. W; PackageReference: SC70-6-419B-02_W; PackageDescription: 6-Pin Small Outline Transistor, Body 2 x 1.25 mm, Pitch 0.65 mm; Supplier 1: Digi-Key; Supplier Part Number 1: NSL12AWT1OS-ND; Packing: Tape and Reel; Polarity: PNP; RoHS: FALSE; Mounting Technology: Surface Mount; ComponentLink1Description: Manufacturer URL; ComponentLink1URL: http://www.onsemi.com/; ComponentLink2Description: Datasheet; ComponentLink2URL: http://www.onsemi.com/pub_link/Collateral/NSL12AW-D.PDF; ComponentLink3Description: Package Specification; ComponentLink3URL: http://www.onsemi.com/pub_link/Collateral/SMF05C-D.PDF
footprint ONSC-SC70-6-419B-02_W_V (SOT23, 6-Leads, Body 2x1.25mm, Pitch 0.65mm)
pins: 1 C, 2 C, 3 B, 4 E, 5 C, 6 C
text: 1, 2, 5, 6

## NSL12AWT1G
designator Q?
High Current Surface Mount PNP Silicon Low VCE(sat), Transistor for Battery Operated Application, 6-Pin SC70, Pb-Free, Tape and Reel; Manufacturer: On Semiconductor; PartNumber: NSL12AWT1G; IC Continuous (A): -2; DatasheetVersion: Rev. 3; PackageVersion: Rev. W; PackageReference: SC70-6-419B-02_W; PackageDescription: 6-Pin Small Outline Transistor, Body 2 x 1.25 mm, Pitch 0.65 mm; Supplier 1: Digi-Key; Supplier Part Number 1: NSL12AWT1GOSTR-ND; Supplier 2: Digi-Key; Supplier Part Number 2: NSL12AWT1GOSCT-ND; Supplier 3: Digi-Key; Supplier Part Number 3: NSL12AWT1GOSDKR-ND; Supplier 4: Newark; Supplier Part Number 4: 45J2076; Supplier 5: Newark; Supplier Part Number 5: 10N9563; Supplier 6: Mouser; Supplier Part Number 6: 863-NSL12AWT1G; Packing: Tape and Reel; Polarity: PNP; RoHS: TRUE; Mounting Technology: Surface Mount; ComponentLink1Description: Manufacturer URL; ComponentLink1URL: http://www.onsemi.com/; ComponentLink2Description: Datasheet; ComponentLink2URL: http://www.onsemi.com/pub_link/Collateral/NSL12AW-D.PDF; ComponentLink3Description: Package Specification; ComponentLink3URL: http://www.onsemi.com/pub_link/Collateral/SMF05C-D.PDF
footprint ONSC-SC70-6-419B-02_W_V (SOT23, 6-Leads, Body 2x1.25mm, Pitch 0.65mm)
pins: 1 C, 2 C, 3 B, 4 E, 5 C, 6 C
text: 1, 2, 5, 6

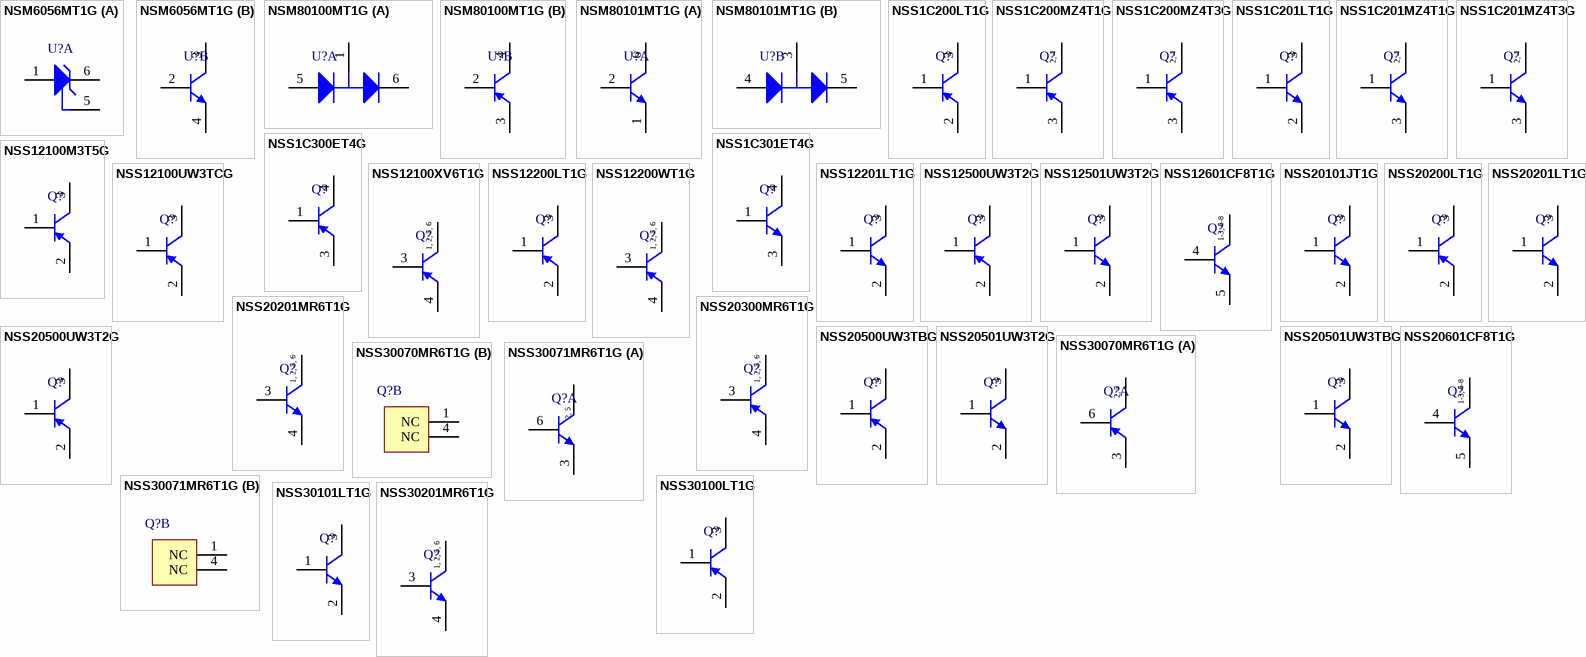
[diagram p35: symbols NSM6056MT1G to NSS30201MR6T1G]

## NSM6056MT1G
designator U?
NPN Transistor with Zener Diode, 6-Pin SC-74, Pb-Free, Tape and Reel; Manufacturer: On Semiconductor; PartNumber: NSM6056MT1G; Note: 0; fT Min (MHz): 250; IC Continuous (A): 0.6; DatasheetVersion: Rev. 0; PackageVersion: Rev. N, 06/2012; PackageReference: SC-74-6-318F-05; PackageDescription: 6-Pin Small Outline Transistor, Body 3 x 1.5 mm, Pitch 0.95 mm; Packing: Tape and Reel; Polarity: NPN; RoHS: TRUE; Mounting Technology: Surface Mount; ComponentLink1Description: Manufacturer URL; ComponentLink1URL: http://www.onsemi.com/; ComponentLink2Description: Datasheet; ComponentLink2URL: http://www.onsemi.com/pub_link/Collateral/NSM6056M-D.PDF; ComponentLink3Description: Package Specification; ComponentLink3URL: http://www.onsemi.com/pub_link/Collateral/318F-05.PDF
footprint ONSC-SC-74-6-318F-05_V (SOT23, 6-Leads, Body 3x1.5mm, Pitch 0.95mm)
part A pins: 1 A, 5 NC, 6 K
part B pins: 2 B, 3 C, 4 E

## NSM80100MT1G
designator U?
PNP Transistor with Dual Series Switching Diodes, 6-Pin SC-74, Pb-Free, Tape and Reel; Manufacturer: On Semiconductor; PartNumber: NSM80100MT1G; fT Min (MHz): 150; IC Continuous (A): -0.5; DatasheetVersion: Rev. 2; PackageVersion: Rev. N, 06/2012; PackageReference: SC-74-6-318F-05; PackageDescription: 6-Pin Small Outline Transistor, Body 3 x 1.5 mm, Pitch 0.95 mm; Supplier 1: Digi-Key; Supplier Part Number 1: NSM80100MT1G-ND; Supplier 2: Mouser; Supplier Part Number 2: 863-NSM80100MT1G; Packing: Tape and Reel; Polarity: PNP; RoHS: TRUE; Mounting Technology: Surface Mount; ComponentLink1Description: Manufacturer URL; ComponentLink1URL: http://www.onsemi.com/; ComponentLink2Description: Datasheet; ComponentLink2URL: http://www.onsemi.com/pub_link/Collateral/NSM80100M-D.PDF; ComponentLink3Description: Package Specification; ComponentLink3URL: http://www.onsemi.com/pub_link/Collateral/318F-05.PDF
footprint ONSC-SC-74-6-318F-05_V (SOT23, 6-Leads, Body 3x1.5mm, Pitch 0.95mm)
part A pins: 1 K/A, 5 A, 6 K
part B pins: 2 B, 3 E, 4 C

## NSM80101MT1G
designator U?
NPN Transistor with Dual Series Switching Diodes, 6-Pin SC-74, Pb-Free, Tape and Reel; Manufacturer: On Semiconductor; PartNumber: NSM80101MT1G; fT Min (MHz): 150; IC Continuous (A): 0.5; DatasheetVersion: Rev. 2; PackageVersion: Rev. N, 06/2012; PackageReference: SC-74-6-318F-05; PackageDescription: 6-Pin Small Outline Transistor, Body 3 x 1.5 mm, Pitch 0.95 mm; Supplier 1: Digi-Key; Supplier Part Number 1: NSM80101MT1G-ND; Supplier 2: Mouser; Supplier Part Number 2: 863-NSM80101MT1G; Packing: Tape and Reel; Polarity: NPN; RoHS: TRUE; Mounting Technology: Surface Mount; ComponentLink1Description: Manufacturer URL; ComponentLink1URL: http://www.onsemi.com/; ComponentLink2Description: Datasheet; ComponentLink2URL: http://www.onsemi.com/pub_link/Collateral/NSM80101M-D.PDF; ComponentLink3Description: Package Specification; ComponentLink3URL: http://www.onsemi.com/pub_link/Collateral/318F-05.PDF
footprint ONSC-SC-74-6-318F-05_V (SOT23, 6-Leads, Body 3x1.5mm, Pitch 0.95mm)
part A pins: 1 E, 2 B, 6 C
part B pins: 3 K/A, 4 A, 5 K

## NSS1C200LT1G
designator Q?
100 V, 3 A, Low VCE(sat), PNP Transistor, 3-Pin SOT-23, Pb-Free, Tape and Reel; Manufacturer: On Semiconductor; PartNumber: NSS1C200LT1G; IC Continuous (A): -2; DatasheetVersion: Rev. 2; PackageVersion: Rev. AP, 11/2009; PackageReference: SOT-23-3-318-08; PackageDescription: 3-Pin Small Outline Transistor, Body 2.92 x 1.3 mm, Pitch 0.95 mm; Supplier 1: Digi-Key; Supplier Part Number 1: NSS1C200LT1GOSTR-ND; Supplier 2: Digi-Key; Supplier Part Number 2: NSS1C200LT1GOSCT-ND; Supplier 3: Digi-Key; Supplier Part Number 3: NSS1C200LT1GOSDKR-ND; Supplier 4: Mouser; Supplier Part Number 4: 863-NSS1C200LT1G; Packing: Tape and Reel; Polarity: PNP; RoHS: TRUE; Mounting Technology: Surface Mount; ComponentLink1Description: Manufacturer URL; ComponentLink1URL: http://www.onsemi.com/; ComponentLink2Description: Datasheet; ComponentLink2URL: http://www.onsemi.cn/pub_link/Collateral/NSS1C200L-D.PDF; ComponentLink3Description: Package Specification; ComponentLink3URL: http://www.onsemi.cn/pub_link/Collateral/318-08.PDF
footprint ONSC-SOT-23-3-318-08_V (SOT23, 3-Leads, Body 2.92x1.3mm, Pitch 0.95mm)
pins: 1 B, 2 E, 3 C

## NSS1C200MZ4T1G
designator Q?
100 V, 2 A, Low VCE(sat), PNP Transistor, 4-Pin SOT-223, Pb-Free, Tape and Reel; Manufacturer: On Semiconductor; PartNumber: NSS1C200MZ4T1G; IC Continuous (A): 2; DatasheetVersion: Rev. 5; PackageVersion: Rev. N, 08/2009; PackageReference: SOT-223-4-318E-04; PackageDescription: 4-Pin Small Outline Transistor, Body 6.5 x 3.5 mm, Pitch 2.3 mm; Supplier 1: Digi-Key; Supplier Part Number 1: NSS1C200MZ4T1GOSTR-ND; Supplier 2: Digi-Key; Supplier Part Number 2: NSS1C200MZ4T1GOSCT-ND; Supplier 3: Digi-Key; Supplier Part Number 3: NSS1C200MZ4T1GOSDKR-ND; Supplier 4: Newark; Supplier Part Number 4: 01P0143; Supplier 5: Mouser; Supplier Part Number 5: 863-NSS1C200MZ4T1G; Packing: Tape and Reel; Polarity: PNP; RoHS: TRUE; Mounting Technology: Surface Mount; ComponentLink1Description: Manufacturer URL; ComponentLink1URL: http://www.onsemi.com/; ComponentLink2Description: Datasheet; ComponentLink2URL: http://www.onsemi.cn/pub_link/Collateral/NSS1C200MZ4-D.PDF; ComponentLink3Description: Package Specification; ComponentLink3URL: http://www.onsemi.com/pub_link/Collateral/318E-04.PDF
footprint ONSC-SOT-223-4-318E-04_V (SOT223, 4-Leads, Body 6.5x3.5mm, Pitch 2.3mm)
pins: 1 B, 2 C, 3 E, 4 C
text: 2, 4

## NSS1C200MZ4T3G
designator Q?
100 V, 2 A, Low VCE(sat), PNP Transistor, 4-Pin SOT-223, Pb-Free, Tape and Reel; Manufacturer: On Semiconductor; PartNumber: NSS1C200MZ4T3G; IC Continuous (A): 2; DatasheetVersion: Rev. 5; PackageVersion: Rev. N, 08/2009; PackageReference: SOT-223-4-318E-04; PackageDescription: 4-Pin Small Outline Transistor, Body 6.5 x 3.5 mm, Pitch 2.3 mm; Supplier 1: Digi-Key; Supplier Part Number 1: NSS1C200MZ4T3G-ND; Supplier 2: Newark; Supplier Part Number 2: 01P5105; Supplier 3: Mouser; Supplier Part Number 3: 863-NSS1C200MZ4T3G; Packing: Tape and Reel; Polarity: PNP; RoHS: TRUE; Mounting Technology: Surface Mount; ComponentLink1Description: Manufacturer URL; ComponentLink1URL: http://www.onsemi.com/; ComponentLink2Description: Datasheet; ComponentLink2URL: http://www.onsemi.cn/pub_link/Collateral/NSS1C200MZ4-D.PDF; ComponentLink3Description: Package Specification; ComponentLink3URL: http://www.onsemi.com/pub_link/Collateral/318E-04.PDF
footprint ONSC-SOT-223-4-318E-04_V (SOT223, 4-Leads, Body 6.5x3.5mm, Pitch 2.3mm)
pins: 1 B, 2 C, 3 E, 4 C
text: 2, 4

## NSS1C201LT1G
designator Q?
100 V, 3 A, Low VCE(sat), NPN Transistor, 3-Pin SOT-23, Pb-Free, Tape and Reel; Manufacturer: On Semiconductor; PartNumber: NSS1C201LT1G; IC Continuous (A): 2; DatasheetVersion: Rev. 3; PackageVersion: Rev. AP, 11/2009; PackageReference: SOT-23-3-318-08; PackageDescription: 3-Pin Small Outline Transistor, Body 2.92 x 1.3 mm, Pitch 0.95 mm; Supplier 1: Digi-Key; Supplier Part Number 1: NSS1C201LT1GOSTR-ND; Supplier 2: Digi-Key; Supplier Part Number 2: NSS1C201LT1GOSCT-ND; Supplier 3: Digi-Key; Supplier Part Number 3: NSS1C201LT1GOSDKR-ND; Supplier 4: Newark; Supplier Part Number 4: 13P5595; Supplier 5: Mouser; Supplier Part Number 5: 863-NSS1C201LT1G; Packing: Tape and Reel; Polarity: NPN; RoHS: TRUE; Mounting Technology: Surface Mount; ComponentLink1Description: Manufacturer URL; ComponentLink1URL: http://www.onsemi.com/; ComponentLink2Description: Datasheet; ComponentLink2URL: http://www.onsemi.cn/pub_link/Collateral/NSS1C201L.PDF; ComponentLink3Description: Package Specification; ComponentLink3URL: http://www.onsemi.cn/pub_link/Collateral/318-08.PDF
footprint ONSC-SOT-23-3-318-08_V (SOT23, 3-Leads, Body 2.92x1.3mm, Pitch 0.95mm)
pins: 1 B, 2 E, 3 C

## NSS1C201MZ4T1G
designator Q?
100 V, 2 A, Low VCE(sat), NPN Transistor, 4-Pin SOT-223, Pb-Free, Tape and Reel; Manufacturer: On Semiconductor; PartNumber: NSS1C201MZ4T1G; IC Continuous (A): 2; DatasheetVersion: Rev. 4; PackageVersion: Rev. N, 08/2009; PackageReference: SOT-223-4-318E-04; PackageDescription: 4-Pin Small Outline Transistor, Body 6.5 x 3.5 mm, Pitch 2.3 mm; Supplier 1: Digi-Key; Supplier Part Number 1: NSS1C201MZ4T1GOSTR-ND; Supplier 2: Digi-Key; Supplier Part Number 2: NSS1C201MZ4T1GOSCT-ND; Supplier 3: Digi-Key; Supplier Part Number 3: NSS1C201MZ4T1GOSDKR-ND; Supplier 4: Newark; Supplier Part Number 4: 46P8326; Supplier 5: Mouser; Supplier Part Number 5: 863-NSS1C201MZ4T1G; Packing: Tape and Reel; Polarity: NPN; RoHS: TRUE; Mounting Technology: Surface Mount; ComponentLink1Description: Manufacturer URL; ComponentLink1URL: http://www.onsemi.com/; ComponentLink2Description: Datasheet; ComponentLink2URL: http://www.onsemi.cn/pub_link/Collateral/NSS1C201MZ4-D.PDF; ComponentLink3Description: Package Specification; ComponentLink3URL: http://www.onsemi.com/pub_link/Collateral/318E-04.PDF
footprint ONSC-SOT-223-4-318E-04_V (SOT223, 4-Leads, Body 6.5x3.5mm, Pitch 2.3mm)
pins: 1 B, 2 C, 3 E, 4 C
text: 2, 4

## NSS1C201MZ4T3G
designator Q?
100 V, 2 A, Low VCE(sat), NPN Transistor, 4-Pin SOT-223, Pb-Free, Tape and Reel; Manufacturer: On Semiconductor; PartNumber: NSS1C201MZ4T3G; IC Continuous (A): 2; DatasheetVersion: Rev. 4; PackageVersion: Rev. N, 08/2009; PackageReference: SOT-223-4-318E-04; PackageDescription: 4-Pin Small Outline Transistor, Body 6.5 x 3.5 mm, Pitch 2.3 mm; Supplier 1: Digi-Key; Supplier Part Number 1: NSS1C201MZ4T3G-ND; Supplier 2: Mouser; Supplier Part Number 2: 863-NSS1C201MZ4T3G; Packing: Tape and Reel; Polarity: NPN; RoHS: TRUE; Mounting Technology: Surface Mount; ComponentLink1Description: Manufacturer URL; ComponentLink1URL: http://www.onsemi.com/; ComponentLink2Description: Datasheet; ComponentLink2URL: http://www.onsemi.cn/pub_link/Collateral/NSS1C201MZ4-D.PDF; ComponentLink3Description: Package Specification; ComponentLink3URL: http://www.onsemi.com/pub_link/Collateral/318E-04.PDF
footprint ONSC-SOT-223-4-318E-04_V (SOT223, 4-Leads, Body 6.5x3.5mm, Pitch 2.3mm)
pins: 1 B, 2 C, 3 E, 4 C
text: 2, 4